# Altium integrated library Atmel Security and Smart Card ICs.IntLib: 140 symbols (part 3 of 5)
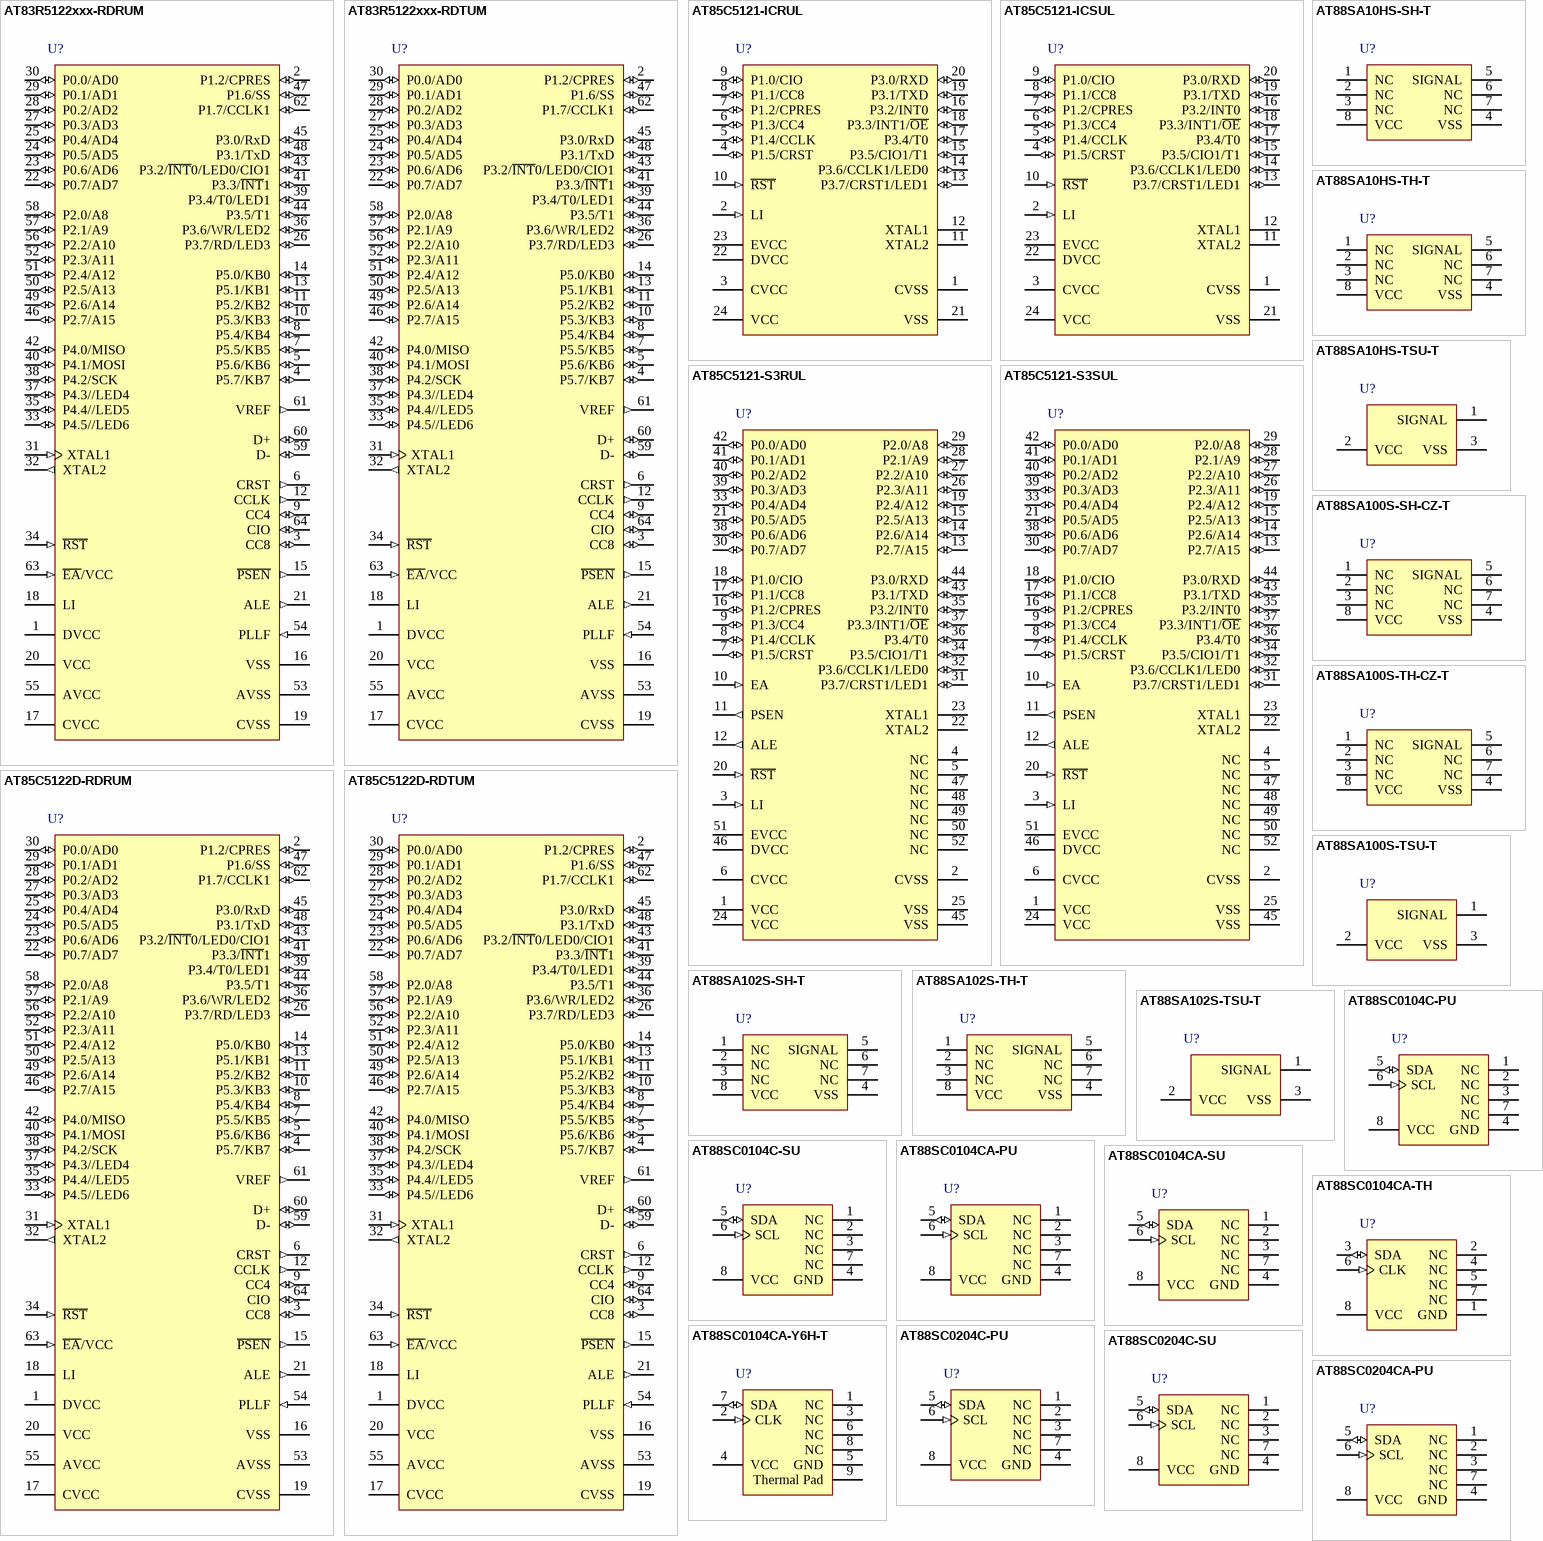
[diagram p10: symbols AT83R5122xxx-RDRUM to AT88SC0204CA-PU]

## AT85C5121-S3SUL
designator U?
8-bit Microcontroller with Multiprotocol Smart Card Interface, Industrial, 52-Pin LCC Pkg, Stick, Pb-Free; Published: 20-Sep-2010; DatasheetVersion: revG, July-2006; PackageVersion: 2006; PackageReference: PLCC52; Publisher: Altium Limited; PackageDescription: 52-Pin Leaded Chip Carrier ,19 x 19 mm Body, 1.27 mm Pitch; Code_IPC: PLCC-52; ComponentLink1Description: Manufacturer Link; ComponentLink1URL: http://www.atmel.com/products/overview_security.asp?; ComponentLink2Description: Datasheet; ComponentLink2URL: http://www.atmel.com/dyn/resources/prod_documents/doc4164.pdf; ComponentLink3Description: Atmel.com Home; ComponentLink3URL: http://www.atmel.com
footprint PLCC52_N (Leaded Chip Carrier, 52-Leads, Body 19x19mm, Pitch 1.27mm, IPC Medium Density)
footprint PLCC52_L (Leaded Chip Carrier, 52-Leads, Body 19x19mm, Pitch 1.27mm, IPC High Density)
footprint PLCC52_M (Leaded Chip Carrier, 52-Leads, Body 19x19mm, Pitch 1.27mm, IPC Low Density)
pins: 1 VCC (power), 2 CVSS (power), 3 LI (in), 4 NC, 5 NC, 6 CVCC (power), 7 P1.5/CRST (io), 8 P1.4/CCLK (io), 9 P1.3/CC4 (io), 10 EA (in), 11 PSEN (out), 12 ALE (out), 13 P2.7/A15 (io), 14 P2.6/A14 (io), 15 P2.5/A13 (io), 16 P1.2/CPRES (io), 17 P1.1/CC8 (io), 18 P1.0/CIO (io), 19 P2.4/A12 (io), 20 ~{RST} (in), 21 P0.5/AD5 (io), 22 XTAL2, 23 XTAL1, 24 VCC (power), 25 VSS (power), 26 P2.3/A11 (io), 27 P2.2/A10 (io), 28 P2.1/A9 (io), 29 P2.0/A8 (io), 30 P0.7/AD7 (io), 31 P3.7/CRST1/LED1 (io), 32 P3.6/CCLK1/LED0 (io), 33 P0.4/AD4 (io), 34 P3.5/CIO1/T1 (io), 35 P3.2/INT0 (io), 36 P3.4/T0 (io), 37 P3.3/INT1/~{OE} (io), 38 P0.6/AD6 (io), 39 P0.3/AD3 (io), 40 P0.2/AD2 (io), 41 P0.1/AD1 (io), 42 P0.0/AD0 (io), 43 P3.1/TXD (io), 44 P3.0/RXD (io), 45 VSS (power), 46 DVCC (power), 47 NC, 48 NC, 49 NC, 50 NC, 51 EVCC (power), 52 NC

## AT85C5122D-RDRUM
designator U?
C51 Microcontroller with USB and Smart Card Reader Interfaces, 32K CRAM, Industrial, 64-Pin QFP Pkg, Tape and Reel; Published: 20-Sep-2010; DatasheetVersion: revF, July-2008; PackageVersion: Apr-2006; PackageReference: LQFP64; Publisher: Altium Limited; PackageDescription: 64-Pin Thin Quad Flat Pack 0.5 mm Pitch; Code_JEDEC: MS-026-BCD; ComponentLink1Description: Manufacturer Link; ComponentLink1URL: http://www.atmel.com/products/overview_security.asp?; ComponentLink2Description: Datasheet; ComponentLink2URL: http://www.atmel.com/dyn/resources/prod_documents/datasheet%20C5122.pdf; ComponentLink3Description: Atmel.com Home; ComponentLink3URL: http://www.atmel.com
footprint LQFP64_N (Thin QFP, 64-Leads, Body 10x10mm, Pitch 0.5mm, IPC Medium Density)
footprint LQFP64_L (Thin QFP, 64-Leads, Body 10x10mm, Pitch 0.5mm, IPC High Density)
footprint LQFP64_M (Thin QFP, 64-Leads, Body 10x10mm, Pitch 0.5mm, IPC Low Density)
pins: 1 DVCC (power), 2 P1.2/CPRES (io), 3 CC8 (io), 4 P5.7/KB7 (io), 5 P5.6/KB6 (io), 6 CRST (out), 7 P5.5/KB5 (io), 8 P5.4/KB4 (io), 9 CC4 (io), 10 P5.3/KB3 (io), 11 P5.2/KB2 (io), 12 CCLK (out), 13 P5.1/KB1 (io), 14 P5.0/KB0 (io), 15 ~{PSEN} (out), 16 VSS (power), 17 CVCC (power), 18 LI (power), 19 CVSS (power), 20 VCC (power), 21 ALE (out), 22 P0.7/AD7 (io), 23 P0.6/AD6 (io), 24 P0.5/AD5 (io), 25 P0.4/AD4 (io), 26 P3.7/RD/LED3 (io), 27 P0.3/AD3 (io), 28 P0.2/AD2 (io), 29 P0.1/AD1 (io), 30 P0.0/AD0 (io), 31 XTAL1 (in), 32 XTAL2 (out), 33 P4.5//LED6 (io), 34 ~{RST} (in), 35 P4.4//LED5 (io), 36 P3.6/WR/LED2 (io), 37 P4.3//LED4 (io), 38 P4.2/SCK (io), 39 P3.4/T0/LED1 (io), 40 P4.1/MOSI (io), 41 P3.3/~{INT}1 (io), 42 P4.0/MISO (io), 43 P3.2/~{INT}0/LED0/CIO1 (io), 44 P3.5/T1 (io), 45 P3.0/RxD (io), 46 P2.7/A15 (io), 47 P1.6/SS (io), 48 P3.1/TxD (io), 49 P2.6/A14 (io), 50 P2.5/A13 (io), 51 P2.4/A12 (io), 52 P2.3/A11 (io), 53 AVSS (power), 54 PLLF (in), 55 AVCC (power), 56 P2.2/A10 (io), 57 P2.1/A9 (io), 58 P2.0/A8 (io), 59 D- (io), 60 D+ (io), 61 VREF (out), 62 P1.7/CCLK1 (io), 63 ~{EA}/VCC (in), 64 CIO (io)

## AT85C5122D-RDTUM
designator U?
C51 Microcontroller with USB and Smart Card Reader Interfaces, 32K CRAM, Industrial, 64-Pin QFP Pkg, Tray; Published: 20-Sep-2010; DatasheetVersion: revF, July-2008; PackageVersion: Apr-2006; PackageReference: LQFP64; Publisher: Altium Limited; PackageDescription: 64-Pin Thin Quad Flat Pack 0.5 mm Pitch; Supplier 1: Mouser; Supplier Part Number 1: 556-A85C5122DRDTUM; Code_JEDEC: MS-026-BCD; ComponentLink1Description: Manufacturer Link; ComponentLink1URL: http://www.atmel.com/products/overview_security.asp?; ComponentLink2Description: Datasheet; ComponentLink2URL: http://www.atmel.com/dyn/resources/prod_documents/datasheet%20C5122.pdf; ComponentLink3Description: Atmel.com Home; ComponentLink3URL: http://www.atmel.com
footprint LQFP64_N (Thin QFP, 64-Leads, Body 10x10mm, Pitch 0.5mm, IPC Medium Density)
footprint LQFP64_L (Thin QFP, 64-Leads, Body 10x10mm, Pitch 0.5mm, IPC High Density)
footprint LQFP64_M (Thin QFP, 64-Leads, Body 10x10mm, Pitch 0.5mm, IPC Low Density)
pins: 1 DVCC (power), 2 P1.2/CPRES (io), 3 CC8 (io), 4 P5.7/KB7 (io), 5 P5.6/KB6 (io), 6 CRST (out), 7 P5.5/KB5 (io), 8 P5.4/KB4 (io), 9 CC4 (io), 10 P5.3/KB3 (io), 11 P5.2/KB2 (io), 12 CCLK (out), 13 P5.1/KB1 (io), 14 P5.0/KB0 (io), 15 ~{PSEN} (out), 16 VSS (power), 17 CVCC (power), 18 LI (power), 19 CVSS (power), 20 VCC (power), 21 ALE (out), 22 P0.7/AD7 (io), 23 P0.6/AD6 (io), 24 P0.5/AD5 (io), 25 P0.4/AD4 (io), 26 P3.7/RD/LED3 (io), 27 P0.3/AD3 (io), 28 P0.2/AD2 (io), 29 P0.1/AD1 (io), 30 P0.0/AD0 (io), 31 XTAL1 (in), 32 XTAL2 (out), 33 P4.5//LED6 (io), 34 ~{RST} (in), 35 P4.4//LED5 (io), 36 P3.6/WR/LED2 (io), 37 P4.3//LED4 (io), 38 P4.2/SCK (io), 39 P3.4/T0/LED1 (io), 40 P4.1/MOSI (io), 41 P3.3/~{INT}1 (io), 42 P4.0/MISO (io), 43 P3.2/~{INT}0/LED0/CIO1 (io), 44 P3.5/T1 (io), 45 P3.0/RxD (io), 46 P2.7/A15 (io), 47 P1.6/SS (io), 48 P3.1/TxD (io), 49 P2.6/A14 (io), 50 P2.5/A13 (io), 51 P2.4/A12 (io), 52 P2.3/A11 (io), 53 AVSS (power), 54 PLLF (in), 55 AVCC (power), 56 P2.2/A10 (io), 57 P2.1/A9 (io), 58 P2.0/A8 (io), 59 D- (io), 60 D+ (io), 61 VREF (out), 62 P1.7/CCLK1 (io), 63 ~{EA}/VCC (in), 64 CIO (io)

## AT88SA10HS-SH-T
designator U?
CryptoAuthentication™ Host Security Chip, Industrial (-40 to 85 degC), 8-Pin SOIC, Tape and Reel, Pb-Free; Published: 20-Sep-2010; DatasheetVersion: revD, May-2010; PackageVersion: revC, Mar-2005; PackageReference: 8S1; Publisher: Altium Limited; PackageDescription: 8-Lead (0.150" Wide Body), Plastic Gull Wing Small Outline (JEDEC SOIC); Code_JEDEC: MS-012-AA; Code_IPC: SOIC127P600-8; ComponentLink1Description: Manufacturer Link; ComponentLink1URL: http://www.atmel.com/products/overview_security.asp?; ComponentLink2Description: Datasheet; ComponentLink2URL: http://www.atmel.com/dyn/resources/prod_documents/doc8595.pdf; ComponentLink3Description: Atmel.com Home; ComponentLink3URL: http://www.atmel.com
footprint 8S1_N (SOIC, 8-Leads, Body 4.9x3.9mm, Pitch 1.27mm, IPC Medium Density)
footprint 8S1_L (SOIC, 8-Leads, Body 4.9x3.9mm, Pitch 1.27mm, IPC High Density)
footprint 8S1_M (SOIC, 8-Leads, Body 4.9x3.9mm, Pitch 1.27mm, IPC Low Density)
pins: 1 NC, 2 NC, 3 NC, 4 VSS (power), 5 SIGNAL (oc), 6 NC, 7 NC, 8 VCC (power)

## AT88SA10HS-TH-T
designator U?
CryptoAuthentication™ Host Security Chip, Industrial (-40 to 85 degC), 8-Pin TSOP, Tape and Reel, Pb-Free; Published: 20-Sep-2010; DatasheetVersion: revD, May-2010; PackageVersion: revD, Dec-2009; PackageReference: 8A2; Publisher: Altium Limited; PackageDescription: 8-Lead, 4.4 mm Body, Plastic Thin Shrink Small Outline Package (TSSOP); Code_JEDEC: MO-153-AA; ComponentLink1Description: Manufacturer Link; ComponentLink1URL: http://www.atmel.com/products/overview_security.asp?; ComponentLink2Description: Datasheet; ComponentLink2URL: http://www.atmel.com/dyn/resources/prod_documents/doc8595.pdf; ComponentLink3Description: Atmel.com Home; ComponentLink3URL: http://www.atmel.com
footprint 8A2_N (TSOP, 8-Leads, Body 3x4.4mm, Pitch 0.65mm, IPC Medium Density)
footprint 8A2_L (TSOP, 8-Leads, Body 3x4.4mm, Pitch 0.65mm, IPC High Density)
footprint 8A2_M (TSOP, 8-Leads, Body 3x4.4mm, Pitch 0.65mm, IPC Low Density)
pins: 1 NC, 2 NC, 3 NC, 4 VSS (power), 5 SIGNAL (oc), 6 NC, 7 NC, 8 VCC (power)

## AT88SA10HS-TSU-T
designator U?
CryptoAuthentication™ Host Security Chip, Industrial (-40 to 85 degC), 3-Pin SOT, Tape and Reel, Pb-Free; Published: 20-Sep-2010; DatasheetVersion: revD, May-2010; PackageVersion: revA,Nov-2008; PackageReference: 3TS1; Publisher: Altium Limited; PackageDescription: 3-Pin Plastic Thin Shrink Small Outline Package, 2.9 x 1.3 mm Body, 0.95 mm Pitch (Shrink SOT); Supplier 1: Digi-Key; Supplier Part Number 1: AT88SA10HS-TSU-T-ND; Supplier 2: Mouser; Supplier Part Number 2: 556-AT88SA10HS-TSU-T; Code_JEDEC: TO-236-AB; Code_IPC: SOT23-3; ComponentLink1Description: Manufacturer Link; ComponentLink1URL: http://www.atmel.com/products/overview_security.asp?; ComponentLink2Description: Datasheet; ComponentLink2URL: http://www.atmel.com/dyn/resources/prod_documents/doc8595.pdf; ComponentLink3Description: Atmel.com Home; ComponentLink3URL: http://www.atmel.com
footprint 3TS1_N (SOT23, 3-Leads, Body 2.9x1.3mm, Pitch 0.95mm, Lead Span 2.4mm, IPC Medium Density)
footprint 3TS1_L (SOT23, 3-Leads, Body 2.9x1.3mm, Pitch 0.95mm, Lead Span 2.4mm, IPC High Density)
footprint 3TS1_M (SOT23, 3-Leads, Body 2.9x1.3mm, Pitch 0.95mm, Lead Span 2.4mm, IPC Low Density)
pins: 1 SIGNAL (oc), 2 VCC (power), 3 VSS (power)

## AT88SA100S-SH-CZ-T
designator U?
CryptoAuthentication™ Battery Authentication Chip, Industrial (-40 to 85 degC), 8-Pin SOIC, Tape and Reel; Published: 20-Sep-2010; DatasheetVersion: revC, May-2010; PackageVersion: revC, Mar-2005; PackageReference: 8S1; Publisher: Altium Limited; PackageDescription: 8-Lead (0.150" Wide Body), Plastic Gull Wing Small Outline (JEDEC SOIC); Code_JEDEC: MS-012-AA; Code_IPC: SOIC127P600-8; ComponentLink1Description: Manufacturer Link; ComponentLink1URL: http://www.atmel.com/products/overview_security.asp?; ComponentLink2Description: Datasheet; ComponentLink2URL: http://www.atmel.com/dyn/resources/prod_documents/doc8558.pdf; ComponentLink3Description: Atmel.com Home; ComponentLink3URL: http://www.atmel.com
footprint 8S1_N (SOIC, 8-Leads, Body 4.9x3.9mm, Pitch 1.27mm, IPC Medium Density)
footprint 8S1_L (SOIC, 8-Leads, Body 4.9x3.9mm, Pitch 1.27mm, IPC High Density)
footprint 8S1_M (SOIC, 8-Leads, Body 4.9x3.9mm, Pitch 1.27mm, IPC Low Density)
pins: 1 NC, 2 NC, 3 NC, 4 VSS (power), 5 SIGNAL (oc), 6 NC, 7 NC, 8 VCC (power)

## AT88SA100S-TH-CZ-T
designator U?
CryptoAuthentication™ Battery Authentication Chip, Industrial (-40 to 85 degC), 8-Pin TSSOP, Tape and Reel; Published: 20-Sep-2010; DatasheetVersion: revC, May-2010; PackageVersion: revD, Dec-2009; PackageReference: 8A2; Publisher: Altium Limited; PackageDescription: 8-Lead, 4.4 mm Body, Plastic Thin Shrink Small Outline Package (TSSOP); Code_JEDEC: MO-153-AA; ComponentLink1Description: Manufacturer Link; ComponentLink1URL: http://www.atmel.com/products/overview_security.asp?; ComponentLink2Description: Datasheet; ComponentLink2URL: http://www.atmel.com/dyn/resources/prod_documents/doc8558.pdf; ComponentLink3Description: Atmel.com Home; ComponentLink3URL: http://www.atmel.com
footprint 8A2_N (TSOP, 8-Leads, Body 3x4.4mm, Pitch 0.65mm, IPC Medium Density)
footprint 8A2_L (TSOP, 8-Leads, Body 3x4.4mm, Pitch 0.65mm, IPC High Density)
footprint 8A2_M (TSOP, 8-Leads, Body 3x4.4mm, Pitch 0.65mm, IPC Low Density)
pins: 1 NC, 2 NC, 3 NC, 4 VSS (power), 5 SIGNAL (oc), 6 NC, 7 NC, 8 VCC (power)

## AT88SA100S-TSU-T
designator U?
CryptoAuthentication™ Battery Authentication Chip, Industrial (-40 to 85 degC), 3-Pin SOT, Tape and Reel; Published: 20-Sep-2010; DatasheetVersion: revC, May-2010; PackageVersion: revA,Nov-2008; PackageReference: 3TS1; Publisher: Altium Limited; PackageDescription: 3-Pin Plastic Thin Shrink Small Outline Package, 2.9 x 1.3 mm Body, 0.95 mm Pitch (Shrink SOT); Supplier 1: Digi-Key; Supplier Part Number 1: AT88SA100S-TSU-T-ND; Supplier 2: Mouser; Supplier Part Number 2: 556-AT88SA100S-TSU-T; Code_JEDEC: TO-236-AB; Code_IPC: SOT23-3; ComponentLink1Description: Manufacturer Link; ComponentLink1URL: http://www.atmel.com/products/overview_security.asp?; ComponentLink2Description: Datasheet; ComponentLink2URL: http://www.atmel.com/dyn/resources/prod_documents/doc8558.pdf; ComponentLink3Description: Atmel.com Home; ComponentLink3URL: http://www.atmel.com
footprint 3TS1_N (SOT23, 3-Leads, Body 2.9x1.3mm, Pitch 0.95mm, Lead Span 2.4mm, IPC Medium Density)
footprint 3TS1_L (SOT23, 3-Leads, Body 2.9x1.3mm, Pitch 0.95mm, Lead Span 2.4mm, IPC High Density)
footprint 3TS1_M (SOT23, 3-Leads, Body 2.9x1.3mm, Pitch 0.95mm, Lead Span 2.4mm, IPC Low Density)
pins: 1 SIGNAL (oc), 2 VCC (power), 3 VSS (power)

## AT88SA102S-SH-T
designator U?
CryptoAuthentication™ Product Authentication Chip, Industrial (-40 to 85 degC), 8-Pin SOIC, Tape and Reel, Pb-Free; Published: 20-Sep-2010; DatasheetVersion: revD, May-2010; PackageVersion: revC, Mar-2005; PackageReference: 8S1; Publisher: Altium Limited; PackageDescription: 8-Lead (0.150" Wide Body), Plastic Gull Wing Small Outline (JEDEC SOIC); Supplier 1: Digi-Key; Supplier Part Number 1: AT88SA102S-SH-T-ND; Supplier 2: Mouser; Supplier Part Number 2: 556-AT88SA102S-SH-T; Code_JEDEC: MS-012-AA; Code_IPC: SOIC127P600-8; ComponentLink1Description: Manufacturer Link; ComponentLink1URL: http://www.atmel.com/products/overview_security.asp?; ComponentLink2Description: Datasheet; ComponentLink2URL: http://www.atmel.com/dyn/resources/prod_documents/doc8584.pdf; ComponentLink3Description: Atmel.com Home; ComponentLink3URL: http://www.atmel.com
footprint 8S1_N (SOIC, 8-Leads, Body 4.9x3.9mm, Pitch 1.27mm, IPC Medium Density)
footprint 8S1_L (SOIC, 8-Leads, Body 4.9x3.9mm, Pitch 1.27mm, IPC High Density)
footprint 8S1_M (SOIC, 8-Leads, Body 4.9x3.9mm, Pitch 1.27mm, IPC Low Density)
pins: 1 NC, 2 NC, 3 NC, 4 VSS (power), 5 SIGNAL (oc), 6 NC, 7 NC, 8 VCC (power)

## AT88SA102S-TH-T
designator U?
CryptoAuthentication™ Product Authentication Chip, Industrial (-40 to 85 degC), 8-Pin TSOP, Tape and Reel, Pb-Free; Published: 20-Sep-2010; DatasheetVersion: revD, May-2010; PackageVersion: revD, Dec-2009; PackageReference: 8A2; Publisher: Altium Limited; PackageDescription: 8-Lead, 4.4 mm Body, Plastic Thin Shrink Small Outline Package (TSSOP); Code_JEDEC: MO-153-AA; ComponentLink1Description: Manufacturer Link; ComponentLink1URL: http://www.atmel.com/products/overview_security.asp?; ComponentLink2Description: Datasheet; ComponentLink2URL: http://www.atmel.com/dyn/resources/prod_documents/doc8584.pdf; ComponentLink3Description: Atmel.com Home; ComponentLink3URL: http://www.atmel.com
footprint 8A2_N (TSOP, 8-Leads, Body 3x4.4mm, Pitch 0.65mm, IPC Medium Density)
footprint 8A2_L (TSOP, 8-Leads, Body 3x4.4mm, Pitch 0.65mm, IPC High Density)
footprint 8A2_M (TSOP, 8-Leads, Body 3x4.4mm, Pitch 0.65mm, IPC Low Density)
pins: 1 NC, 2 NC, 3 NC, 4 VSS (power), 5 SIGNAL (oc), 6 NC, 7 NC, 8 VCC (power)

## AT88SA102S-TSU-T
designator U?
CryptoAuthentication™ Product Authentication Chip, Industrial (-40 to 85 degC), 3-Pin SOT, Tape and Reel, Pb-Free; Published: 20-Sep-2010; DatasheetVersion: revD, May-2010; PackageVersion: revA,Nov-2008; PackageReference: 3TS1; Publisher: Altium Limited; PackageDescription: 3-Pin Plastic Thin Shrink Small Outline Package, 2.9 x 1.3 mm Body, 0.95 mm Pitch (Shrink SOT); Supplier 1: Digi-Key; Supplier Part Number 1: AT88SA102S-TSU-T-ND; Supplier 2: Mouser; Supplier Part Number 2: 556-AT88SA102S-TSU-T; Code_JEDEC: TO-236-AB; Code_IPC: SOT23-3; ComponentLink1Description: Manufacturer Link; ComponentLink1URL: http://www.atmel.com/products/overview_security.asp?; ComponentLink2Description: Datasheet; ComponentLink2URL: http://www.atmel.com/dyn/resources/prod_documents/doc8584.pdf; ComponentLink3Description: Atmel.com Home; ComponentLink3URL: http://www.atmel.com
footprint 3TS1_N (SOT23, 3-Leads, Body 2.9x1.3mm, Pitch 0.95mm, Lead Span 2.4mm, IPC Medium Density)
footprint 3TS1_L (SOT23, 3-Leads, Body 2.9x1.3mm, Pitch 0.95mm, Lead Span 2.4mm, IPC High Density)
footprint 3TS1_M (SOT23, 3-Leads, Body 2.9x1.3mm, Pitch 0.95mm, Lead Span 2.4mm, IPC Low Density)
pins: 1 SIGNAL (oc), 2 VCC (power), 3 VSS (power)

## AT88SC0104C-PU
designator U?
AT88SC0104C CryptoMemory®: 1-Kbit User Memory with Authentication and Encryption, Industrial (-40 to 85 degC), 8-Pin PDIP Pkg, Pb-Free; Published: 20-Sep-2010; DatasheetVersion: revKS, Oct-2009; PackageVersion: revB, Jan-2002; PackageReference: 8P3; Publisher: Altium Limited; PackageDescription: 8-Lead, 0.300" Wide Body, Plastic Dual In-Line Package (PDIP); Supplier 1: Mouser; Supplier Part Number 1: 556-A88SC0104C-PU; Code_JEDEC: MS-001-BA; ComponentLink1Description: Manufacturer Link; ComponentLink1URL: http://www.atmel.com/products/overview_security.asp?; ComponentLink2Description: Datasheet; ComponentLink2URL: http://www.atmel.com/dyn/resources/prod_documents/doc5211.pdf; ComponentLink3Description: Atmel.com Home; ComponentLink3URL: http://www.atmel.com
footprint 8P3 (DIP, 8-Leads, Row Spacing 7.62mm, Pitch 2.54mm, Body 9.59x6.61mm)
pins: 1 NC, 2 NC, 3 NC, 4 GND (power), 5 SDA (io), 6 SCL (in), 7 NC, 8 VCC (power)

## AT88SC0104C-SU
designator U?
AT88SC0104C CryptoMemory®: 1-Kbit User Memory with Authentication and Encryption, Industrial (-40 to 85 degC), 8-Pin SOIC Pkg, Pb-Free; Published: 20-Sep-2010; DatasheetVersion: revKS, Oct-2009; PackageVersion: revC, Mar-2005; PackageReference: 8S1; Publisher: Altium Limited; PackageDescription: 8-Lead (0.150" Wide Body), Plastic Gull Wing Small Outline (JEDEC SOIC); Supplier 1: Mouser; Supplier Part Number 1: 556-A88SC0104CSU; Code_JEDEC: MS-012-AA; Code_IPC: SOIC127P600-8; ComponentLink1Description: Manufacturer Link; ComponentLink1URL: http://www.atmel.com/products/overview_security.asp?; ComponentLink2Description: Datasheet; ComponentLink2URL: http://www.atmel.com/dyn/resources/prod_documents/doc5211.pdf; ComponentLink3Description: Atmel.com Home; ComponentLink3URL: http://www.atmel.com
footprint 8S1_N (SOIC, 8-Leads, Body 4.9x3.9mm, Pitch 1.27mm, IPC Medium Density)
footprint 8S1_L (SOIC, 8-Leads, Body 4.9x3.9mm, Pitch 1.27mm, IPC High Density)
footprint 8S1_M (SOIC, 8-Leads, Body 4.9x3.9mm, Pitch 1.27mm, IPC Low Density)
pins: 1 NC, 2 NC, 3 NC, 4 GND (power), 5 SDA (io), 6 SCL (in), 7 NC, 8 VCC (power)

## AT88SC0104CA-PU
designator U?
AT88SC0104CA CryptoMemory®: 1-Kbit User Memory with Authentication and Encryption, Industrial (-40 to 85 degC), 8-Pin PDIP Pkg, Pb-Free; Published: 20-Sep-2010; DatasheetVersion: revC, Aug-2009; PackageVersion: revB, Jan-2002; PackageReference: 8P3; Publisher: Altium Limited; PackageDescription: 8-Lead, 0.300" Wide Body, Plastic Dual In-Line Package (PDIP); Supplier 1: Digi-Key; Supplier Part Number 1: AT88SC0104CA-PU-ND; Supplier 2: Mouser; Supplier Part Number 2: 556-AT88SC0104CA-PU; Code_JEDEC: MS-001-BA; ComponentLink1Description: Manufacturer Link; ComponentLink1URL: http://www.atmel.com/products/overview_security.asp?; ComponentLink2Description: Datasheet; ComponentLink2URL: http://www.atmel.com/dyn/resources/prod_documents/doc5200S.pdf; ComponentLink3Description: Atmel.com Home; ComponentLink3URL: http://www.atmel.com
footprint 8P3 (DIP, 8-Leads, Row Spacing 7.62mm, Pitch 2.54mm, Body 9.59x6.61mm)
pins: 1 NC, 2 NC, 3 NC, 4 GND (power), 5 SDA (io), 6 SCL (in), 7 NC, 8 VCC (power)

## AT88SC0104CA-SU
designator U?
AT88SC0104CA CryptoMemory®: 1-Kbit User Memory with Authentication and Encryption, Industrial (-40 to 85 degC), 8-Pin SOIC Pkg, Pb-Free; Published: 20-Sep-2010; DatasheetVersion: revC, Aug-2009; PackageVersion: revC, Mar-2005; PackageReference: 8S1; Publisher: Altium Limited; PackageDescription: 8-Lead (0.150" Wide Body), Plastic Gull Wing Small Outline (JEDEC SOIC); Supplier 1: Digi-Key; Supplier Part Number 1: AT88SC0104CA-SU-ND; Supplier 2: Mouser; Supplier Part Number 2: 556-AT88SC0104CA-SU; Code_JEDEC: MS-012-AA; Code_IPC: SOIC127P600-8; ComponentLink1Description: Manufacturer Link; ComponentLink1URL: http://www.atmel.com/products/overview_security.asp?; ComponentLink2Description: Datasheet; ComponentLink2URL: http://www.atmel.com/dyn/resources/prod_documents/doc5200S.pdf; ComponentLink3Description: Atmel.com Home; ComponentLink3URL: http://www.atmel.com
footprint 8S1_N (SOIC, 8-Leads, Body 4.9x3.9mm, Pitch 1.27mm, IPC Medium Density)
footprint 8S1_L (SOIC, 8-Leads, Body 4.9x3.9mm, Pitch 1.27mm, IPC High Density)
footprint 8S1_M (SOIC, 8-Leads, Body 4.9x3.9mm, Pitch 1.27mm, IPC Low Density)
pins: 1 NC, 2 NC, 3 NC, 4 GND (power), 5 SDA (io), 6 SCL (in), 7 NC, 8 VCC (power)

## AT88SC0104CA-TH
designator U?
AT88SC0104CA CryptoMemory®: 1-Kbit User Memory with Authentication and Encryption, Industrial (-40 to 85 degC), 8-Pin TSSOP Pkg, Pb-Free; Published: 20-Sep-2010; DatasheetVersion: revC, Aug-2009; PackageVersion: revD, Dec-2009; PackageReference: 8A2; Publisher: Altium Limited; PackageDescription: 8-Lead, 4.4 mm Body, Plastic Thin Shrink Small Outline Package (TSSOP); Supplier 1: Digi-Key; Supplier Part Number 1: AT88SC0104CA-TH-ND; Supplier 2: Mouser; Supplier Part Number 2: 556-AT88SC0104CA-TH; Code_JEDEC: MO-153-AA; ComponentLink1Description: Manufacturer Link; ComponentLink1URL: http://www.atmel.com/products/overview_security.asp?; ComponentLink2Description: Datasheet; ComponentLink2URL: http://www.atmel.com/dyn/resources/prod_documents/doc5200S.pdf; ComponentLink3Description: Atmel.com Home; ComponentLink3URL: http://www.atmel.com
footprint 8A2_N (TSOP, 8-Leads, Body 3x4.4mm, Pitch 0.65mm, IPC Medium Density)
footprint 8A2_L (TSOP, 8-Leads, Body 3x4.4mm, Pitch 0.65mm, IPC High Density)
footprint 8A2_M (TSOP, 8-Leads, Body 3x4.4mm, Pitch 0.65mm, IPC Low Density)
pins: 1 GND (power), 2 NC, 3 SDA (io), 4 NC, 5 NC, 6 CLK (in), 7 NC, 8 VCC (power)

## AT88SC0104CA-Y6H-T
designator U?
AT88SC0104CA CryptoMemory®: 1-Kbit User Memory with Authentication and Encryption, Industrial (-40 to 85 degC), 8-Pad Mini-MAP Pkg, Pb-Free; Published: 20-Sep-2010; DatasheetVersion: revC, Aug-2009; PackageVersion: revE, Nov-2008; PackageReference: 8Y6; Publisher: Altium Limited; PackageDescription: 8-pad, 2 x 3 x 0.6 mm Body, 0.5 mm Pitch, Ultra Thin Mini-MAP, Dual No Lead Package, Sawn (UDFN); Supplier 1: Digi-Key; Supplier Part Number 1: AT88SC0104CA-Y6H-T-ND; Supplier 2: Mouser; Supplier Part Number 2: 556-AT88SC0104CAY6HT; Code_JEDEC: MO-229; ComponentLink1Description: Manufacturer Link; ComponentLink1URL: http://www.atmel.com/products/overview_security.asp?; ComponentLink2Description: Datasheet; ComponentLink2URL: http://www.atmel.com/dyn/resources/prod_documents/doc5200S.pdf; ComponentLink3Description: Atmel.com Home; ComponentLink3URL: http://www.atmel.com
footprint 8Y6_N (SON, 8-Leads, Body 2x3 mm, Pitch 0.5mm, IPC Medium Density)
footprint 8Y6_L (SON, 8-Leads, Body 2x3 mm, Pitch 0.5mm, IPC High Density)
footprint 8Y6_M (SON, 8-Leads, Body 2x3 mm, Pitch 0.5mm, IPC Low Density)
pins: 1 NC, 2 CLK (in), 3 NC, 4 VCC (power), 5 GND (power), 6 NC, 7 SDA (io), 8 NC, 9 Thermal Pad (power)

## AT88SC0204C-PU
designator U?
AT88SC0204C CryptoMemory®: 2-Kbit User Memory with Authentication and Encryption, Industrial (-40 to 85 degC), 8-Pin PDIP Pkg, Pb-Free; Published: 20-Sep-2010; DatasheetVersion: revKS, Oct-2009; PackageVersion: revB, Jan-2002; PackageReference: 8P3; Publisher: Altium Limited; PackageDescription: 8-Lead, 0.300" Wide Body, Plastic Dual In-Line Package (PDIP); Supplier 1: Mouser; Supplier Part Number 1: 556-A88SC0204C-PU; Code_JEDEC: MS-001-BA; ComponentLink1Description: Manufacturer Link; ComponentLink1URL: http://www.atmel.com/products/overview_security.asp?; ComponentLink2Description: Datasheet; ComponentLink2URL: http://www.atmel.com/dyn/resources/prod_documents/doc5211.pdf; ComponentLink3Description: Atmel.com Home; ComponentLink3URL: http://www.atmel.com
footprint 8P3 (DIP, 8-Leads, Row Spacing 7.62mm, Pitch 2.54mm, Body 9.59x6.61mm)
pins: 1 NC, 2 NC, 3 NC, 4 GND (power), 5 SDA (io), 6 SCL (in), 7 NC, 8 VCC (power)

## AT88SC0204C-SU
designator U?
AT88SC0204C CryptoMemory®: 2-Kbit User Memory with Authentication and Encryption, Industrial (-40 to 85 degC), 8-Pin SOIC Pkg, Pb-Free; Published: 20-Sep-2010; DatasheetVersion: revKS, Oct-2009; PackageVersion: revC, Mar-2005; PackageReference: 8S1; Publisher: Altium Limited; PackageDescription: 8-Lead (0.150" Wide Body), Plastic Gull Wing Small Outline (JEDEC SOIC); Supplier 1: Mouser; Supplier Part Number 1: 556-A88SC0204CSU; Code_JEDEC: MS-012-AA; Code_IPC: SOIC127P600-8; ComponentLink1Description: Manufacturer Link; ComponentLink1URL: http://www.atmel.com/products/overview_security.asp?; ComponentLink2Description: Datasheet; ComponentLink2URL: http://www.atmel.com/dyn/resources/prod_documents/doc5211.pdf; ComponentLink3Description: Atmel.com Home; ComponentLink3URL: http://www.atmel.com
footprint 8S1_N (SOIC, 8-Leads, Body 4.9x3.9mm, Pitch 1.27mm, IPC Medium Density)
footprint 8S1_L (SOIC, 8-Leads, Body 4.9x3.9mm, Pitch 1.27mm, IPC High Density)
footprint 8S1_M (SOIC, 8-Leads, Body 4.9x3.9mm, Pitch 1.27mm, IPC Low Density)
pins: 1 NC, 2 NC, 3 NC, 4 GND (power), 5 SDA (io), 6 SCL (in), 7 NC, 8 VCC (power)

## AT88SC0204CA-PU
designator U?
AT88SC0204CA CryptoMemory®: 2-Kbit User Memory with Authentication and Encryption, Industrial (-40 to 85 degC), 8-Pin PDIP Pkg, Pb-Free; Published: 20-Sep-2010; DatasheetVersion: revC, Aug-2009; PackageVersion: revB, Jan-2002; PackageReference: 8P3; Publisher: Altium Limited; PackageDescription: 8-Lead, 0.300" Wide Body, Plastic Dual In-Line Package (PDIP); Supplier 1: Digi-Key; Supplier Part Number 1: AT88SC0204CA-PU-ND; Supplier 2: Mouser; Supplier Part Number 2: 556-AT88SC0204CA-PU; Code_JEDEC: MS-001-BA; ComponentLink1Description: Manufacturer Link; ComponentLink1URL: http://www.atmel.com/products/overview_security.asp?; ComponentLink2Description: Datasheet; ComponentLink2URL: http://www.atmel.com/dyn/resources/prod_documents/doc5202S.pdf; ComponentLink3Description: Atmel.com Home; ComponentLink3URL: http://www.atmel.com
footprint 8P3 (DIP, 8-Leads, Row Spacing 7.62mm, Pitch 2.54mm, Body 9.59x6.61mm)
pins: 1 NC, 2 NC, 3 NC, 4 GND (power), 5 SDA (io), 6 SCL (in), 7 NC, 8 VCC (power)

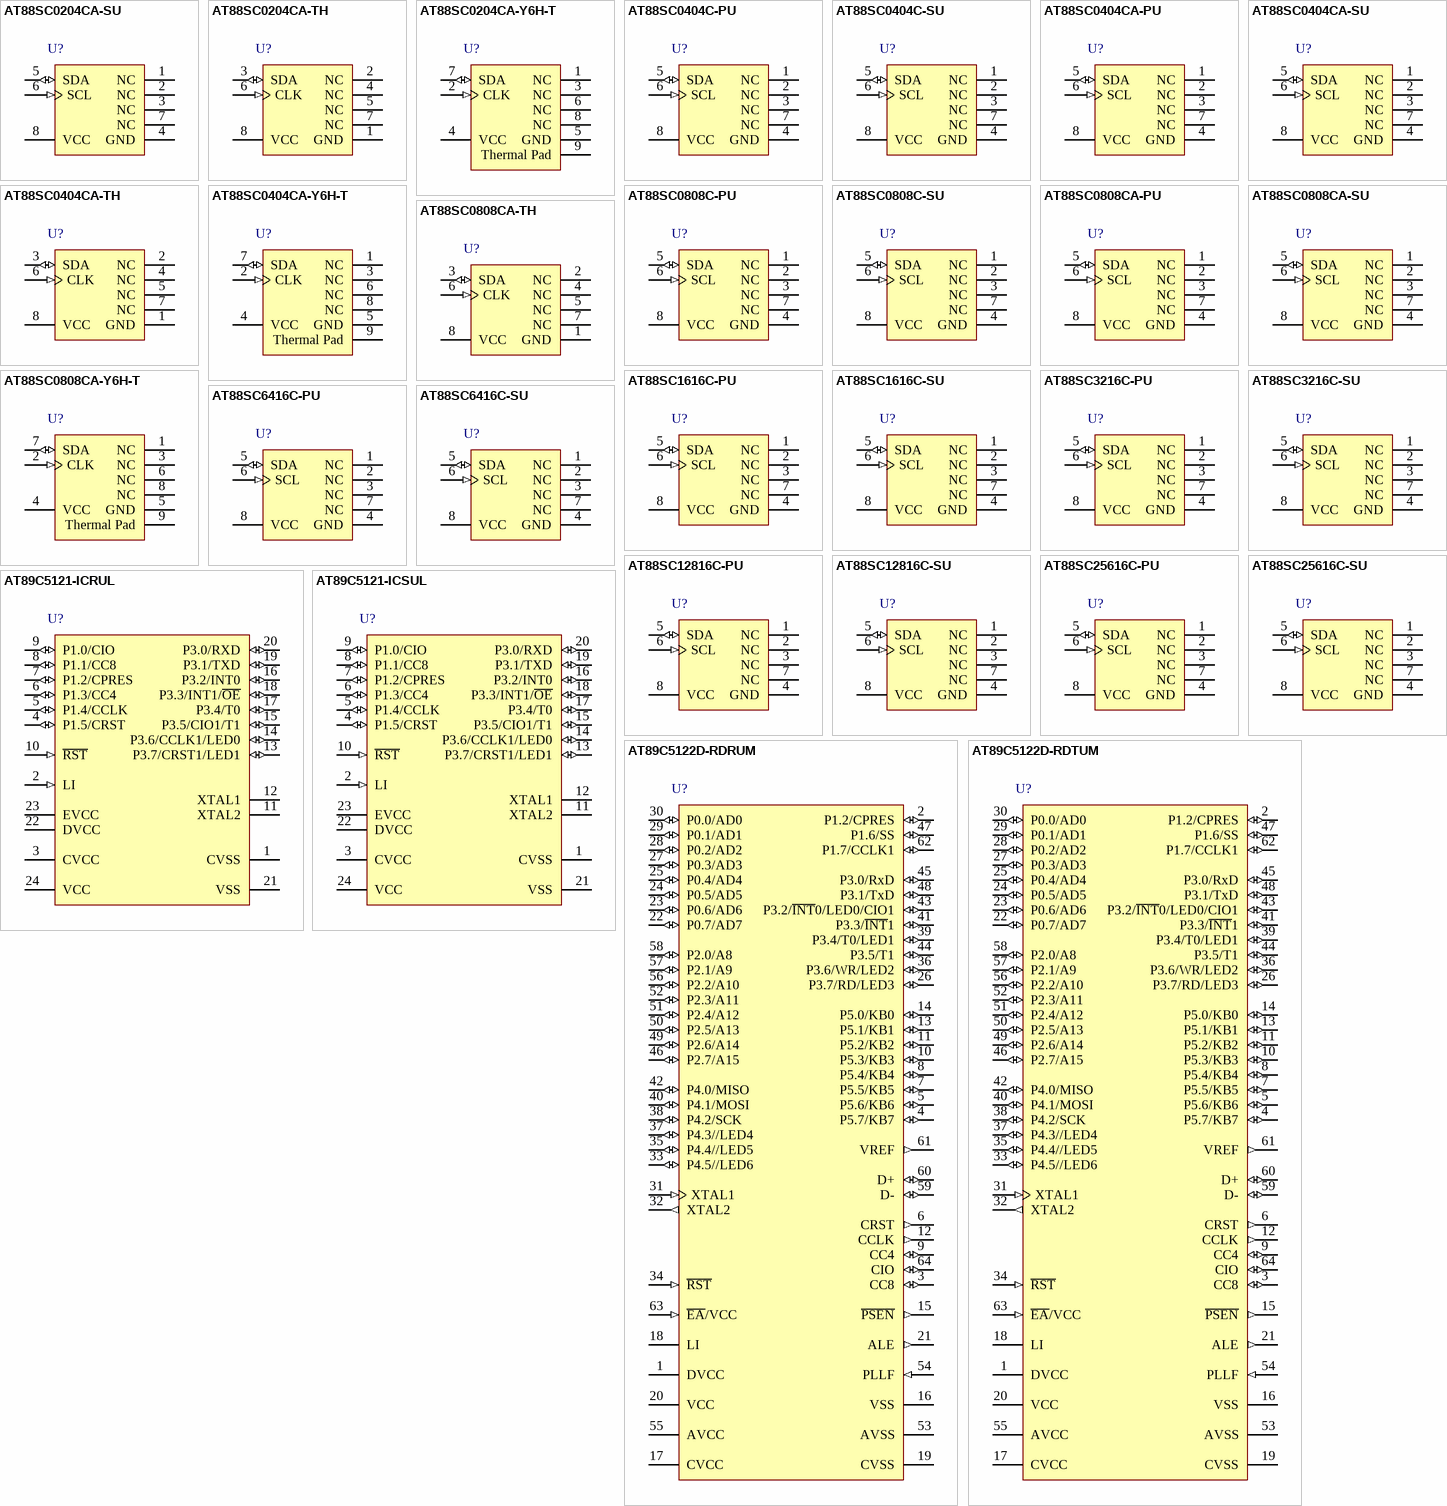
[diagram p6: symbols AT88SC0204CA-SU to AT89C5122D-RDTUM]

## AT88SC0204CA-SU
designator U?
AT88SC0204CA CryptoMemory®: 2-Kbit User Memory with Authentication and Encryption, Industrial (-40 to 85 degC), 8-Pin SOIC Pkg, Pb-Free; Published: 20-Sep-2010; DatasheetVersion: revC, Aug-2009; PackageVersion: revC, Mar-2005; PackageReference: 8S1; Publisher: Altium Limited; PackageDescription: 8-Lead (0.150" Wide Body), Plastic Gull Wing Small Outline (JEDEC SOIC); Supplier 1: Digi-Key; Supplier Part Number 1: AT88SC0204CA-SU-ND; Supplier 2: Mouser; Supplier Part Number 2: 556-AT88SC0204CA-SU; Code_JEDEC: MS-012-AA; Code_IPC: SOIC127P600-8; ComponentLink1Description: Manufacturer Link; ComponentLink1URL: http://www.atmel.com/products/overview_security.asp?; ComponentLink2Description: Datasheet; ComponentLink2URL: http://www.atmel.com/dyn/resources/prod_documents/doc5202S.pdf; ComponentLink3Description: Atmel.com Home; ComponentLink3URL: http://www.atmel.com
footprint 8S1_N (SOIC, 8-Leads, Body 4.9x3.9mm, Pitch 1.27mm, IPC Medium Density)
footprint 8S1_L (SOIC, 8-Leads, Body 4.9x3.9mm, Pitch 1.27mm, IPC High Density)
footprint 8S1_M (SOIC, 8-Leads, Body 4.9x3.9mm, Pitch 1.27mm, IPC Low Density)
pins: 1 NC, 2 NC, 3 NC, 4 GND (power), 5 SDA (io), 6 SCL (in), 7 NC, 8 VCC (power)

## AT88SC0204CA-TH
designator U?
AT88SC0204CA CryptoMemory®: 2-Kbit User Memory with Authentication and Encryption, Industrial (-40 to 85 degC), 8-Pin TSSOP Pkg, Pb-Free; Published: 20-Sep-2010; DatasheetVersion: revC, Aug-2009; PackageVersion: revD, Dec-2009; PackageReference: 8A2; Publisher: Altium Limited; PackageDescription: 8-Lead, 4.4 mm Body, Plastic Thin Shrink Small Outline Package (TSSOP); Supplier 1: Digi-Key; Supplier Part Number 1: AT88SC0204CA-TH-ND; Supplier 2: Mouser; Supplier Part Number 2: 556-AT88SC0204CA-TH; Code_JEDEC: MO-153-AA; ComponentLink1Description: Manufacturer Link; ComponentLink1URL: http://www.atmel.com/products/overview_security.asp?; ComponentLink2Description: Datasheet; ComponentLink2URL: http://www.atmel.com/dyn/resources/prod_documents/doc5202S.pdf; ComponentLink3Description: Atmel.com Home; ComponentLink3URL: http://www.atmel.com
footprint 8A2_N (TSOP, 8-Leads, Body 3x4.4mm, Pitch 0.65mm, IPC Medium Density)
footprint 8A2_L (TSOP, 8-Leads, Body 3x4.4mm, Pitch 0.65mm, IPC High Density)
footprint 8A2_M (TSOP, 8-Leads, Body 3x4.4mm, Pitch 0.65mm, IPC Low Density)
pins: 1 GND (power), 2 NC, 3 SDA (io), 4 NC, 5 NC, 6 CLK (in), 7 NC, 8 VCC (power)

## AT88SC0204CA-Y6H-T
designator U?
AT88SC0204CA CryptoMemory®: 2-Kbit User Memory with Authentication and Encryption, Industrial (-40 to 85 degC), 8-Pad Mini-MAP Pkg, Pb-Free; Published: 20-Sep-2010; DatasheetVersion: revC, Aug-2009; PackageVersion: revE, Nov-2008; PackageReference: 8Y6; Publisher: Altium Limited; PackageDescription: 8-pad, 2 x 3 x 0.6 mm Body, 0.5 mm Pitch, Ultra Thin Mini-MAP, Dual No Lead Package, Sawn (UDFN); Supplier 1: Digi-Key; Supplier Part Number 1: AT88SC0204CA-Y6H-T-ND; Supplier 2: Mouser; Supplier Part Number 2: 556-AT88SC0204CAY6HT; Code_JEDEC: MO-229; ComponentLink1Description: Manufacturer Link; ComponentLink1URL: http://www.atmel.com/products/overview_security.asp?; ComponentLink2Description: Datasheet; ComponentLink2URL: http://www.atmel.com/dyn/resources/prod_documents/doc5202S.pdf; ComponentLink3Description: Atmel.com Home; ComponentLink3URL: http://www.atmel.com
footprint 8Y6_N (SON, 8-Leads, Body 2x3 mm, Pitch 0.5mm, IPC Medium Density)
footprint 8Y6_L (SON, 8-Leads, Body 2x3 mm, Pitch 0.5mm, IPC High Density)
footprint 8Y6_M (SON, 8-Leads, Body 2x3 mm, Pitch 0.5mm, IPC Low Density)
pins: 1 NC, 2 CLK (in), 3 NC, 4 VCC (power), 5 GND (power), 6 NC, 7 SDA (io), 8 NC, 9 Thermal Pad (power)

## AT88SC0404C-PU
designator U?
AT88SC0404C CryptoMemory®: 4-Kbit User Memory with Authentication and Encryption, Industrial (-40 to 85 degC), 8-Pin PDIP Pkg, Pb-Free; Published: 20-Sep-2010; DatasheetVersion: revKS, Oct-2009; PackageVersion: revB, Jan-2002; PackageReference: 8P3; Publisher: Altium Limited; PackageDescription: 8-Lead, 0.300" Wide Body, Plastic Dual In-Line Package (PDIP); Supplier 1: Mouser; Supplier Part Number 1: 556-A88SC0404C-PU; Code_JEDEC: MS-001-BA; ComponentLink1Description: Manufacturer Link; ComponentLink1URL: http://www.atmel.com/products/overview_security.asp?; ComponentLink2Description: Datasheet; ComponentLink2URL: http://www.atmel.com/dyn/resources/prod_documents/doc5211.pdf; ComponentLink3Description: Atmel.com Home; ComponentLink3URL: http://www.atmel.com
footprint 8P3 (DIP, 8-Leads, Row Spacing 7.62mm, Pitch 2.54mm, Body 9.59x6.61mm)
pins: 1 NC, 2 NC, 3 NC, 4 GND (power), 5 SDA (io), 6 SCL (in), 7 NC, 8 VCC (power)

## AT88SC0404C-SU
designator U?
AT88SC0404C CryptoMemory®: 4-Kbit User Memory with Authentication and Encryption, Industrial (-40 to 85 degC), 8-Pin SOIC Pkg, Pb-Free; Published: 20-Sep-2010; DatasheetVersion: revKS, Oct-2009; PackageVersion: revC, Mar-2005; PackageReference: 8S1; Publisher: Altium Limited; PackageDescription: 8-Lead (0.150" Wide Body), Plastic Gull Wing Small Outline (JEDEC SOIC); Supplier 1: Mouser; Supplier Part Number 1: 556-A88SC0404CSU; Code_JEDEC: MS-012-AA; Code_IPC: SOIC127P600-8; ComponentLink1Description: Manufacturer Link; ComponentLink1URL: http://www.atmel.com/products/overview_security.asp?; ComponentLink2Description: Datasheet; ComponentLink2URL: http://www.atmel.com/dyn/resources/prod_documents/doc5211.pdf; ComponentLink3Description: Atmel.com Home; ComponentLink3URL: http://www.atmel.com
footprint 8S1_N (SOIC, 8-Leads, Body 4.9x3.9mm, Pitch 1.27mm, IPC Medium Density)
footprint 8S1_L (SOIC, 8-Leads, Body 4.9x3.9mm, Pitch 1.27mm, IPC High Density)
footprint 8S1_M (SOIC, 8-Leads, Body 4.9x3.9mm, Pitch 1.27mm, IPC Low Density)
pins: 1 NC, 2 NC, 3 NC, 4 GND (power), 5 SDA (io), 6 SCL (in), 7 NC, 8 VCC (power)

## AT88SC0404CA-PU
designator U?
AT88SC0404CA CryptoMemory®: 4-Kbit User Memory with Authentication and Encryption, Industrial (-40 to 85 degC), 8-Pin PDIP Pkg, Pb-Free; Published: 20-Sep-2010; DatasheetVersion: revC, Aug-2009; PackageVersion: revB, Jan-2002; PackageReference: 8P3; Publisher: Altium Limited; PackageDescription: 8-Lead, 0.300" Wide Body, Plastic Dual In-Line Package (PDIP); Supplier 1: Digi-Key; Supplier Part Number 1: AT88SC0404CA-PU-ND; Supplier 2: Mouser; Supplier Part Number 2: 556-AT88SC0404CA-PU; Code_JEDEC: MS-001-BA; ComponentLink1Description: Manufacturer Link; ComponentLink1URL: http://www.atmel.com/products/overview_security.asp?; ComponentLink2Description: Datasheet; ComponentLink2URL: http://www.atmel.com/dyn/resources/prod_documents/doc5203S.pdf; ComponentLink3Description: Atmel.com Home; ComponentLink3URL: http://www.atmel.com
footprint 8P3 (DIP, 8-Leads, Row Spacing 7.62mm, Pitch 2.54mm, Body 9.59x6.61mm)
pins: 1 NC, 2 NC, 3 NC, 4 GND (power), 5 SDA (io), 6 SCL (in), 7 NC, 8 VCC (power)

## AT88SC0404CA-SU
designator U?
AT88SC0404CA CryptoMemory®: 4-Kbit User Memory with Authentication and Encryption, Industrial (-40 to 85 degC), 8-Pin SOIC Pkg, Pb-Free; Published: 20-Sep-2010; DatasheetVersion: revC, Aug-2009; PackageVersion: revC, Mar-2005; PackageReference: 8S1; Publisher: Altium Limited; PackageDescription: 8-Lead (0.150" Wide Body), Plastic Gull Wing Small Outline (JEDEC SOIC); Supplier 1: Digi-Key; Supplier Part Number 1: AT88SC0404CA-SU-ND; Supplier 2: Mouser; Supplier Part Number 2: 556-AT88SC0404CA-SU; Code_JEDEC: MS-012-AA; Code_IPC: SOIC127P600-8; ComponentLink1Description: Manufacturer Link; ComponentLink1URL: http://www.atmel.com/products/overview_security.asp?; ComponentLink2Description: Datasheet; ComponentLink2URL: http://www.atmel.com/dyn/resources/prod_documents/doc5203S.pdf; ComponentLink3Description: Atmel.com Home; ComponentLink3URL: http://www.atmel.com
footprint 8S1_N (SOIC, 8-Leads, Body 4.9x3.9mm, Pitch 1.27mm, IPC Medium Density)
footprint 8S1_L (SOIC, 8-Leads, Body 4.9x3.9mm, Pitch 1.27mm, IPC High Density)
footprint 8S1_M (SOIC, 8-Leads, Body 4.9x3.9mm, Pitch 1.27mm, IPC Low Density)
pins: 1 NC, 2 NC, 3 NC, 4 GND (power), 5 SDA (io), 6 SCL (in), 7 NC, 8 VCC (power)

## AT88SC0404CA-TH
designator U?
AT88SC0404CA CryptoMemory®: 4-Kbit User Memory with Authentication and Encryption, Industrial (-40 to 85 degC), 8-Pin TSSOP Pkg, Pb-Free; Published: 20-Sep-2010; DatasheetVersion: revC, Aug-2009; PackageVersion: revD, Dec-2009; PackageReference: 8A2; Publisher: Altium Limited; PackageDescription: 8-Lead, 4.4 mm Body, Plastic Thin Shrink Small Outline Package (TSSOP); Supplier 1: Digi-Key; Supplier Part Number 1: AT88SC0404CA-TH-ND; Supplier 2: Mouser; Supplier Part Number 2: 556-AT88SC0404CA-TH; Code_JEDEC: MO-153-AA; ComponentLink1Description: Manufacturer Link; ComponentLink1URL: http://www.atmel.com/products/overview_security.asp?; ComponentLink2Description: Datasheet; ComponentLink2URL: http://www.atmel.com/dyn/resources/prod_documents/doc5203S.pdf; ComponentLink3Description: Atmel.com Home; ComponentLink3URL: http://www.atmel.com
footprint 8A2_N (TSOP, 8-Leads, Body 3x4.4mm, Pitch 0.65mm, IPC Medium Density)
footprint 8A2_L (TSOP, 8-Leads, Body 3x4.4mm, Pitch 0.65mm, IPC High Density)
footprint 8A2_M (TSOP, 8-Leads, Body 3x4.4mm, Pitch 0.65mm, IPC Low Density)
pins: 1 GND (power), 2 NC, 3 SDA (io), 4 NC, 5 NC, 6 CLK (in), 7 NC, 8 VCC (power)

## AT88SC0404CA-Y6H-T
designator U?
AT88SC0404CA CryptoMemory®: 4-Kbit User Memory with Authentication and Encryption, Industrial (-40 to 85 degC), 8-Pad Mini-MAP Pkg, Pb-Free; Published: 20-Sep-2010; DatasheetVersion: revC, Aug-2009; PackageVersion: revE, Nov-2008; PackageReference: 8Y6; Publisher: Altium Limited; PackageDescription: 8-pad, 2 x 3 x 0.6 mm Body, 0.5 mm Pitch, Ultra Thin Mini-MAP, Dual No Lead Package, Sawn (UDFN); Supplier 1: Digi-Key; Supplier Part Number 1: AT88SC0404CA-Y6H-T-ND; Supplier 2: Mouser; Supplier Part Number 2: 556-AT88SC0404CAY6HT; Code_JEDEC: MO-229; ComponentLink1Description: Manufacturer Link; ComponentLink1URL: http://www.atmel.com/products/overview_security.asp?; ComponentLink2Description: Datasheet; ComponentLink2URL: http://www.atmel.com/dyn/resources/prod_documents/doc5203S.pdf; ComponentLink3Description: Atmel.com Home; ComponentLink3URL: http://www.atmel.com
footprint 8Y6_N (SON, 8-Leads, Body 2x3 mm, Pitch 0.5mm, IPC Medium Density)
footprint 8Y6_L (SON, 8-Leads, Body 2x3 mm, Pitch 0.5mm, IPC High Density)
footprint 8Y6_M (SON, 8-Leads, Body 2x3 mm, Pitch 0.5mm, IPC Low Density)
pins: 1 NC, 2 CLK (in), 3 NC, 4 VCC (power), 5 GND (power), 6 NC, 7 SDA (io), 8 NC, 9 Thermal Pad (power)

## AT88SC0808C-PU
designator U?
AT88SC0808C CryptoMemory®: 8-Kbit User Memory with Authentication and Encryption, Industrial (-40 to 85 degC), 8-Pin PDIP Pkg, Pb-Free; Published: 20-Sep-2010; DatasheetVersion: revKS, Oct-2009; PackageVersion: revB, Jan-2002; PackageReference: 8P3; Publisher: Altium Limited; PackageDescription: 8-Lead, 0.300" Wide Body, Plastic Dual In-Line Package (PDIP); Supplier 1: Mouser; Supplier Part Number 1: 556-A88SC0808C-PU; Code_JEDEC: MS-001-BA; ComponentLink1Description: Manufacturer Link; ComponentLink1URL: http://www.atmel.com/products/overview_security.asp?; ComponentLink2Description: Datasheet; ComponentLink2URL: http://www.atmel.com/dyn/resources/prod_documents/doc5211.pdf; ComponentLink3Description: Atmel.com Home; ComponentLink3URL: http://www.atmel.com
footprint 8P3 (DIP, 8-Leads, Row Spacing 7.62mm, Pitch 2.54mm, Body 9.59x6.61mm)
pins: 1 NC, 2 NC, 3 NC, 4 GND (power), 5 SDA (io), 6 SCL (in), 7 NC, 8 VCC (power)

## AT88SC0808C-SU
designator U?
AT88SC0808C CryptoMemory®: 8-Kbit User Memory with Authentication and Encryption, Industrial (-40 to 85 degC), 8-Pin SOIC Pkg, Pb-Free; Published: 20-Sep-2010; DatasheetVersion: revKS, Oct-2009; PackageVersion: revC, Mar-2005; PackageReference: 8S1; Publisher: Altium Limited; PackageDescription: 8-Lead (0.150" Wide Body), Plastic Gull Wing Small Outline (JEDEC SOIC); Supplier 1: Mouser; Supplier Part Number 1: 556-A88SC0808CSU; Code_JEDEC: MS-012-AA; Code_IPC: SOIC127P600-8; ComponentLink1Description: Manufacturer Link; ComponentLink1URL: http://www.atmel.com/products/overview_security.asp?; ComponentLink2Description: Datasheet; ComponentLink2URL: http://www.atmel.com/dyn/resources/prod_documents/doc5211.pdf; ComponentLink3Description: Atmel.com Home; ComponentLink3URL: http://www.atmel.com
footprint 8S1_N (SOIC, 8-Leads, Body 4.9x3.9mm, Pitch 1.27mm, IPC Medium Density)
footprint 8S1_L (SOIC, 8-Leads, Body 4.9x3.9mm, Pitch 1.27mm, IPC High Density)
footprint 8S1_M (SOIC, 8-Leads, Body 4.9x3.9mm, Pitch 1.27mm, IPC Low Density)
pins: 1 NC, 2 NC, 3 NC, 4 GND (power), 5 SDA (io), 6 SCL (in), 7 NC, 8 VCC (power)

## AT88SC0808CA-PU
designator U?
AT88SC0808CA CryptoMemory®: 8-Kbit User Memory with Authentication and Encryption, Industrial (-40 to 85 degC), 8-Pin PDIP Pkg, Pb-Free; Published: 20-Sep-2010; DatasheetVersion: revC, Aug-2009; PackageVersion: revB, Jan-2002; PackageReference: 8P3; Publisher: Altium Limited; PackageDescription: 8-Lead, 0.300" Wide Body, Plastic Dual In-Line Package (PDIP); Supplier 1: Digi-Key; Supplier Part Number 1: AT88SC0808CA-PU-ND; Supplier 2: Mouser; Supplier Part Number 2: 556-AT88SC0808CA-PU; Code_JEDEC: MS-001-BA; ComponentLink1Description: Manufacturer Link; ComponentLink1URL: http://www.atmel.com/products/overview_security.asp?; ComponentLink2Description: Datasheet; ComponentLink2URL: http://www.atmel.com/dyn/resources/prod_documents/doc5204S.pdf; ComponentLink3Description: Atmel.com Home; ComponentLink3URL: http://www.atmel.com
footprint 8P3 (DIP, 8-Leads, Row Spacing 7.62mm, Pitch 2.54mm, Body 9.59x6.61mm)
pins: 1 NC, 2 NC, 3 NC, 4 GND (power), 5 SDA (io), 6 SCL (in), 7 NC, 8 VCC (power)

## AT88SC0808CA-SU
designator U?
AT88SC0808CA CryptoMemory®: 8-Kbit User Memory with Authentication and Encryption, Industrial (-40 to 85 degC), 8-Pin SOIC Pkg, Pb-Free; Published: 20-Sep-2010; DatasheetVersion: revC, Aug-2009; PackageVersion: revC, Mar-2005; PackageReference: 8S1; Publisher: Altium Limited; PackageDescription: 8-Lead (0.150" Wide Body), Plastic Gull Wing Small Outline (JEDEC SOIC); Supplier 1: Digi-Key; Supplier Part Number 1: AT88SC0808CA-SU-ND; Supplier 2: Mouser; Supplier Part Number 2: 556-AT88SC0808CA-SU; Code_JEDEC: MS-012-AA; Code_IPC: SOIC127P600-8; ComponentLink1Description: Manufacturer Link; ComponentLink1URL: http://www.atmel.com/products/overview_security.asp?; ComponentLink2Description: Datasheet; ComponentLink2URL: http://www.atmel.com/dyn/resources/prod_documents/doc5204S.pdf; ComponentLink3Description: Atmel.com Home; ComponentLink3URL: http://www.atmel.com
footprint 8S1_N (SOIC, 8-Leads, Body 4.9x3.9mm, Pitch 1.27mm, IPC Medium Density)
footprint 8S1_L (SOIC, 8-Leads, Body 4.9x3.9mm, Pitch 1.27mm, IPC High Density)
footprint 8S1_M (SOIC, 8-Leads, Body 4.9x3.9mm, Pitch 1.27mm, IPC Low Density)
pins: 1 NC, 2 NC, 3 NC, 4 GND (power), 5 SDA (io), 6 SCL (in), 7 NC, 8 VCC (power)

## AT88SC0808CA-TH
designator U?
AT88SC0808CA CryptoMemory®: 8-Kbit User Memory with Authentication and Encryption, Industrial (-40 to 85 degC), 8-Pin TSSOP Pkg, Pb-Free; Published: 20-Sep-2010; DatasheetVersion: revC, Aug-2009; PackageVersion: revD, Dec-2009; PackageReference: 8A2; Publisher: Altium Limited; PackageDescription: 8-Lead, 4.4 mm Body, Plastic Thin Shrink Small Outline Package (TSSOP); Supplier 1: Digi-Key; Supplier Part Number 1: AT88SC0808CA-TH-ND; Supplier 2: Mouser; Supplier Part Number 2: 556-AT88SC0808CA-TH; Code_JEDEC: MO-153-AA; ComponentLink1Description: Manufacturer Link; ComponentLink1URL: http://www.atmel.com/products/overview_security.asp?; ComponentLink2Description: Datasheet; ComponentLink2URL: http://www.atmel.com/dyn/resources/prod_documents/doc5204S.pdf; ComponentLink3Description: Atmel.com Home; ComponentLink3URL: http://www.atmel.com
footprint 8A2_N (TSOP, 8-Leads, Body 3x4.4mm, Pitch 0.65mm, IPC Medium Density)
footprint 8A2_L (TSOP, 8-Leads, Body 3x4.4mm, Pitch 0.65mm, IPC High Density)
footprint 8A2_M (TSOP, 8-Leads, Body 3x4.4mm, Pitch 0.65mm, IPC Low Density)
pins: 1 GND (power), 2 NC, 3 SDA (io), 4 NC, 5 NC, 6 CLK (in), 7 NC, 8 VCC (power)

## AT88SC0808CA-Y6H-T
designator U?
AT88SC0808CA CryptoMemory®: 8-Kbit User Memory with Authentication and Encryption, Industrial (-40 to 85 degC), 8-Pad Mini-MAP Pkg, Pb-Free; Published: 20-Sep-2010; DatasheetVersion: revC, Aug-2009; PackageVersion: revE, Nov-2008; PackageReference: 8Y6; Publisher: Altium Limited; PackageDescription: 8-pad, 2 x 3 x 0.6 mm Body, 0.5 mm Pitch, Ultra Thin Mini-MAP, Dual No Lead Package, Sawn (UDFN); Supplier 1: Digi-Key; Supplier Part Number 1: AT88SC0808CA-Y6H-T-ND; Supplier 2: Mouser; Supplier Part Number 2: 556-AT88SC0808CAY6HT; Code_JEDEC: MO-229; ComponentLink1Description: Manufacturer Link; ComponentLink1URL: http://www.atmel.com/products/overview_security.asp?; ComponentLink2Description: Datasheet; ComponentLink2URL: http://www.atmel.com/dyn/resources/prod_documents/doc5204S.pdf; ComponentLink3Description: Atmel.com Home; ComponentLink3URL: http://www.atmel.com
footprint 8Y6_N (SON, 8-Leads, Body 2x3 mm, Pitch 0.5mm, IPC Medium Density)
footprint 8Y6_L (SON, 8-Leads, Body 2x3 mm, Pitch 0.5mm, IPC High Density)
footprint 8Y6_M (SON, 8-Leads, Body 2x3 mm, Pitch 0.5mm, IPC Low Density)
pins: 1 NC, 2 CLK (in), 3 NC, 4 VCC (power), 5 GND (power), 6 NC, 7 SDA (io), 8 NC, 9 Thermal Pad (power)

## AT88SC1616C-PU
designator U?
AT88SC1616C CryptoMemory®: 16-Kbit User Memory with Authentication and Encryption, Industrial (-40 to 85 degC), 8-Pin PDIP Pkg, Pb-Free; Published: 20-Sep-2010; DatasheetVersion: revKS, Oct-2009; PackageVersion: revB, Jan-2002; PackageReference: 8P3; Publisher: Altium Limited; PackageDescription: 8-Lead, 0.300" Wide Body, Plastic Dual In-Line Package (PDIP); Supplier 1: Digi-Key; Supplier Part Number 1: AT88SC1616C-PU-ND; Supplier 2: Mouser; Supplier Part Number 2: 556-A88SC1616C-PU; Code_JEDEC: MS-001-BA; ComponentLink1Description: Manufacturer Link; ComponentLink1URL: http://www.atmel.com/products/overview_security.asp?; ComponentLink2Description: Datasheet; ComponentLink2URL: http://www.atmel.com/dyn/resources/prod_documents/doc5211.pdf; ComponentLink3Description: Atmel.com Home; ComponentLink3URL: http://www.atmel.com
footprint 8P3 (DIP, 8-Leads, Row Spacing 7.62mm, Pitch 2.54mm, Body 9.59x6.61mm)
pins: 1 NC, 2 NC, 3 NC, 4 GND (power), 5 SDA (io), 6 SCL (in), 7 NC, 8 VCC (power)

## AT88SC1616C-SU
designator U?
AT88SC1616C CryptoMemory®: 16-Kbit User Memory with Authentication and Encryption, Industrial (-40 to 85 degC), 8-Pin SOIC Pkg, Pb-Free; Published: 20-Sep-2010; DatasheetVersion: revKS, Oct-2009; PackageVersion: revC, Mar-2005; PackageReference: 8S1; Publisher: Altium Limited; PackageDescription: 8-Lead (0.150" Wide Body), Plastic Gull Wing Small Outline (JEDEC SOIC); Supplier 1: Digi-Key; Supplier Part Number 1: AT88SC1616C-SU-ND; Supplier 2: Mouser; Supplier Part Number 2: 556-A88SC1616CSU; Code_JEDEC: MS-012-AA; Code_IPC: SOIC127P600-8; ComponentLink1Description: Manufacturer Link; ComponentLink1URL: http://www.atmel.com/products/overview_security.asp?; ComponentLink2Description: Datasheet; ComponentLink2URL: http://www.atmel.com/dyn/resources/prod_documents/doc5211.pdf; ComponentLink3Description: Atmel.com Home; ComponentLink3URL: http://www.atmel.com
footprint 8S1_N (SOIC, 8-Leads, Body 4.9x3.9mm, Pitch 1.27mm, IPC Medium Density)
footprint 8S1_L (SOIC, 8-Leads, Body 4.9x3.9mm, Pitch 1.27mm, IPC High Density)
footprint 8S1_M (SOIC, 8-Leads, Body 4.9x3.9mm, Pitch 1.27mm, IPC Low Density)
pins: 1 NC, 2 NC, 3 NC, 4 GND (power), 5 SDA (io), 6 SCL (in), 7 NC, 8 VCC (power)

## AT88SC3216C-PU
designator U?
AT88SC3216C CryptoMemory®: 32-Kbit User Memory with Authentication and Encryption, Industrial (-40 to 85 degC), 8-Pin PDIP Pkg, Pb-Free; Published: 20-Sep-2010; DatasheetVersion: revK, Aug-2009; PackageVersion: revB, Jan-2002; PackageReference: 8P3; Publisher: Altium Limited; PackageDescription: 8-Lead, 0.300" Wide Body, Plastic Dual In-Line Package (PDIP); Supplier 1: Digi-Key; Supplier Part Number 1: AT88SC3216C-PU-ND; Supplier 2: Mouser; Supplier Part Number 2: 556-A88SC3216C-PU; Code_JEDEC: MS-001-BA; ComponentLink1Description: Manufacturer Link; ComponentLink1URL: http://www.atmel.com/products/overview_security.asp?; ComponentLink2Description: Datasheet; ComponentLink2URL: http://www.atmel.com/dyn/resources/prod_documents/doc5211.pdf; ComponentLink3Description: Atmel.com Home; ComponentLink3URL: http://www.atmel.com
footprint 8P3 (DIP, 8-Leads, Row Spacing 7.62mm, Pitch 2.54mm, Body 9.59x6.61mm)
pins: 1 NC, 2 NC, 3 NC, 4 GND (power), 5 SDA (io), 6 SCL (in), 7 NC, 8 VCC (power)

## AT88SC3216C-SU
designator U?
AT88SC3216C CryptoMemory®: 32-Kbit User Memory with Authentication and Encryption, Industrial (-40 to 85 degC), 8-Pin SOIC Pkg, Pb-Free; Published: 20-Sep-2010; DatasheetVersion: revK, Aug-2009; PackageVersion: revC, Mar-2005; PackageReference: 8S1; Publisher: Altium Limited; PackageDescription: 8-Lead (0.150" Wide Body), Plastic Gull Wing Small Outline (JEDEC SOIC); Supplier 1: Digi-Key; Supplier Part Number 1: AT88SC3216C-SU-ND; Supplier 2: Mouser; Supplier Part Number 2: 556-A88SC3216CSU; Code_JEDEC: MS-012-AA; Code_IPC: SOIC127P600-8; ComponentLink1Description: Manufacturer Link; ComponentLink1URL: http://www.atmel.com/products/overview_security.asp?; ComponentLink2Description: Datasheet; ComponentLink2URL: http://www.atmel.com/dyn/resources/prod_documents/doc5211.pdf; ComponentLink3Description: Atmel.com Home; ComponentLink3URL: http://www.atmel.com
footprint 8S1_N (SOIC, 8-Leads, Body 4.9x3.9mm, Pitch 1.27mm, IPC Medium Density)
footprint 8S1_L (SOIC, 8-Leads, Body 4.9x3.9mm, Pitch 1.27mm, IPC High Density)
footprint 8S1_M (SOIC, 8-Leads, Body 4.9x3.9mm, Pitch 1.27mm, IPC Low Density)
pins: 1 NC, 2 NC, 3 NC, 4 GND (power), 5 SDA (io), 6 SCL (in), 7 NC, 8 VCC (power)

## AT88SC6416C-PU
designator U?
AT88SC6416C CryptoMemory®: 64-Kbit User Memory with Authentication and Encryption, Industrial (-40 to 85 degC), 8-Pin PDIP Pkg, Pb-Free; Published: 20-Sep-2010; DatasheetVersion: revK, Aug-2009; PackageVersion: revB, Jan-2002; PackageReference: 8P3; Publisher: Altium Limited; PackageDescription: 8-Lead, 0.300" Wide Body, Plastic Dual In-Line Package (PDIP); Supplier 1: Digi-Key; Supplier Part Number 1: AT88SC6416C-PU-ND; Supplier 2: Mouser; Supplier Part Number 2: 556-A88SC6416C-PU; Code_JEDEC: MS-001-BA; ComponentLink1Description: Manufacturer Link; ComponentLink1URL: http://www.atmel.com/products/overview_security.asp?; ComponentLink2Description: Datasheet; ComponentLink2URL: http://www.atmel.com/dyn/resources/prod_documents/doc5211.pdf; ComponentLink3Description: Atmel.com Home; ComponentLink3URL: http://www.atmel.com
footprint 8P3 (DIP, 8-Leads, Row Spacing 7.62mm, Pitch 2.54mm, Body 9.59x6.61mm)
pins: 1 NC, 2 NC, 3 NC, 4 GND (power), 5 SDA (io), 6 SCL (in), 7 NC, 8 VCC (power)